# EAGLE library part ATLAS_SCIENTIFIC_RTD_OEM (library ATLAS_SCIENTIFIC_OEM)
Atlas Scientific OEM Module https://www.atlas-scientific.com/ This library works for all v2.0 OEM Modules that follow 5x2 pin layout. This library also works for the RTD OEM module v1.1 that follows 6x2 layout. Designed by AKstudios github.com/AKstudios
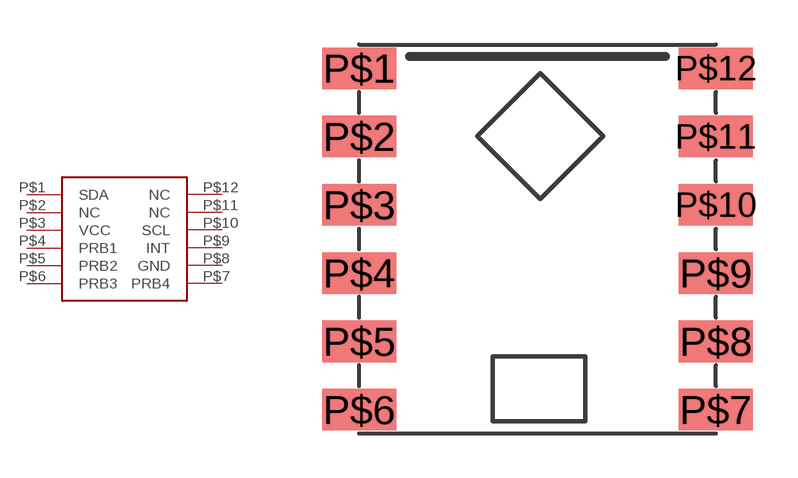
[diagram p1: symbol with the pads of ATLAS_SCIENTIFIC_RTD_OEM; footprint ATLAS_SCIENTIFIC_RTD_OEM]

Designator prefix -

## ATLAS_SCIENTIFIC_RTD_OEM  [ATLAS_SCIENTIFIC_RTD_OEM]
P$1  SDA
P$2  NC
P$3  VCC
P$4  PRB1
P$5  PRB2
P$6  PRB3
P$7  PRB4
P$8  GND
P$9  INT
P$10  SCL
P$11  NC
P$12  NC

## Footprint ATLAS_SCIENTIFIC_RTD_OEM (pad centres in mm)
smd 2.5 x 1.4: P$1 0,12.2; P$2 0,9.9; P$3 0,7.6; P$4 0,5.3; P$5 0,3; P$6 0,0.7; P$7 12,0.7; P$8 12,3; P$9 12,5.3; P$10 12,7.6; P$11 12,9.9; P$12 12,12.2